# Altium footprint library PcbLib.PcbLib: 11 footprints
Each footprint in its own frame and in the unit in brackets; x right, y up, seen from the top. Pads: shape width x height; smd on the part's side, far side on the other; paste and mask are expansions set on the pad; w line width, h text height; cw(c..) or ccw(c..) is an arc to the next point about the centre after c.
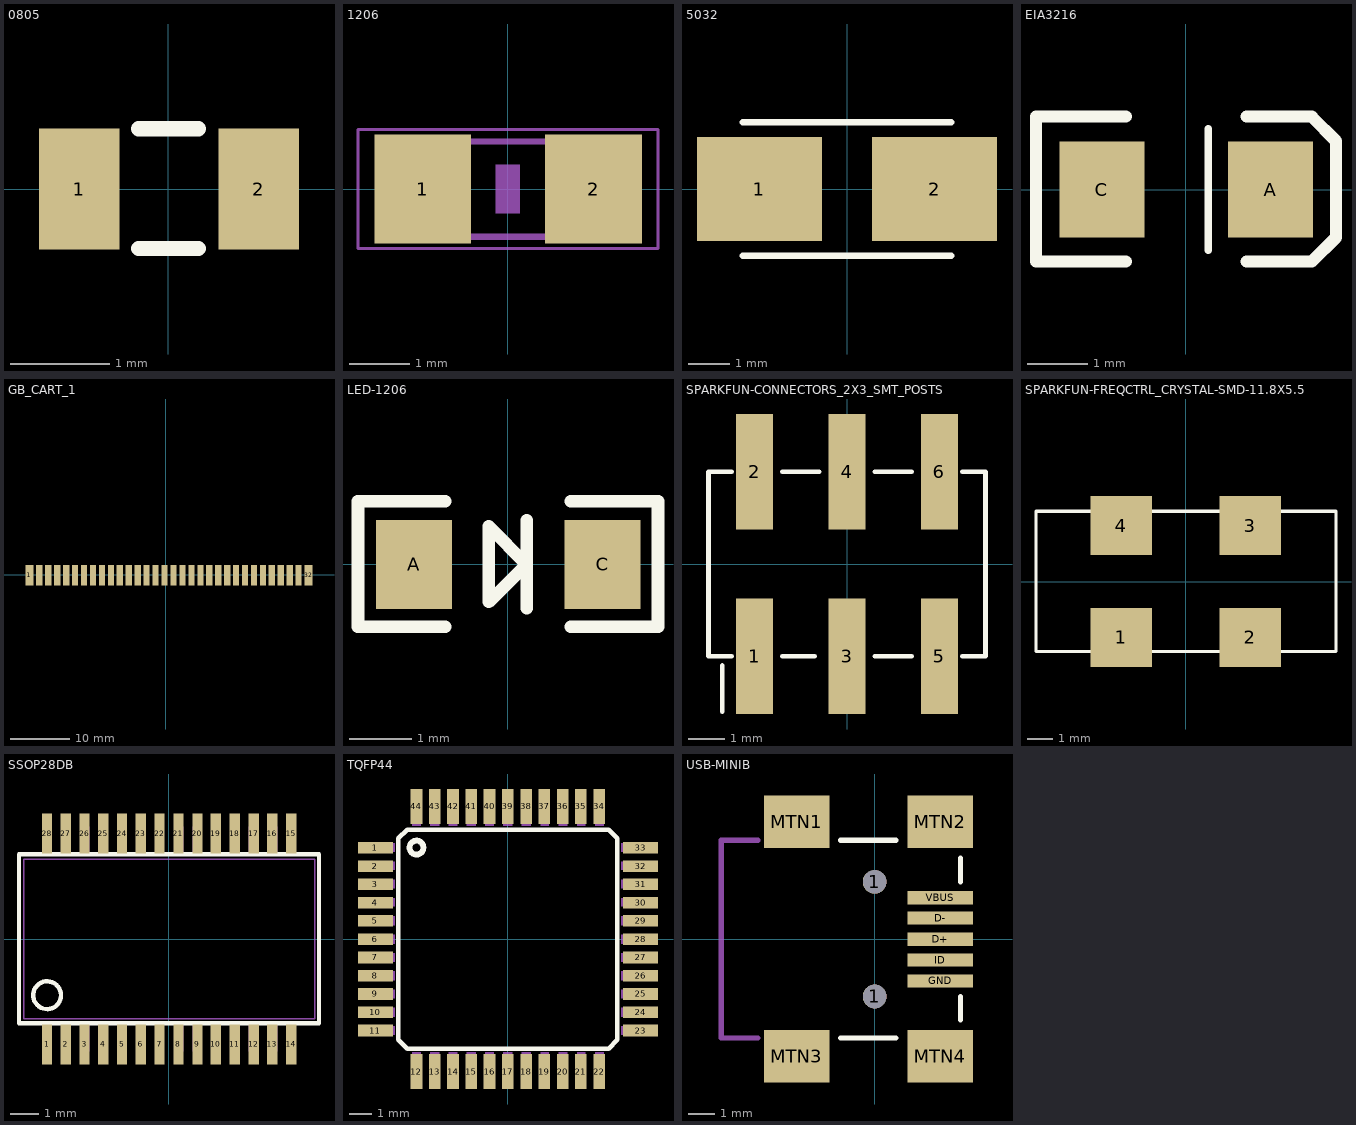
[diagram p0: the footprints below, top view; thin cyan lines are the x and y axes]

## 0805 [mil] "0805"
pads (2):
  rect 32x48 smd: 1(-35.43,0) 2(36,0)
Top Overlay:
  lines w6: -11.81,-23.62 12,-23.62 ; -11.81,24 12,24

## 1206 [mil] "1206"
pads (2):
  rect 63x71 smd: 1(-55.12,0) 2(56,0)
Top Overlay:
Mechanical 6:
  rectangle: -7.87,-15.75 8,16
Mechanical 16:
  rectangle: -67,-33.5 -37.47,34
  rectangle: 38,-33.43 67,34
  lines w4: -37.99,-30.98 38,-30.98 ; -37.99,31 38,31
Mechanical 27:
  lines w2: -97.36,-38.7 98,-38.7 98,39 -97.36,39 -97.36,-38.7

## 5032 [mm]
pads (2):
  rect 3x2.5 smd: 1(-2.1,0) 2(2.1,0)
Top Overlay:
  lines w0.152: -2.5,-1.6 2.5,-1.6 ; -2.5,1.6 2.5,1.6

## EIA3216 [mil] "EIA3216"
pads (2):
  rect 56x63 smd: A(56,0) C(-55.12,0)
Top Overlay:
  lines w5: 15,-40 15,40
  lines w8: -39.37,-47.24 -98.43,-47.24 -98.43,48 -39.37,48 ; 40,-47.24 83,-47.24 99,-31.5 99,32 83,48 40,48

## GB_CART_1 [mil] "GB_CART_1"
pads (32):
  rect 54x137 smd: 1(-901.38,-4.72) 32(943,-4.72)
  rect 41x137 smd: 2(-835.63,-4.72) 3(-776.57,-4.72) 4(-717.52,-4.72) 5(-658.46,-4.72) 6(-599.41,-4.72) 7(-540.35,-4.72) 8(-481.3,-4.72) 9(-422.24,-4.72) 10(-363.19,-4.72) 11(-304.13,-4.72) 12(-245.08,-4.72) 13(-186.02,-4.72) 14(-126.97,-4.72) 15(-67.91,-4.72) 16(-8.86,-4.72) 17(51,-4.72) 18(110,-4.72) 19(169,-4.72) 20(228,-4.72) 21(287,-4.72) 22(346,-4.72) 23(405,-4.72) 24(464,-4.72) 25(523,-4.72) 26(582,-4.72) 27(641,-4.72) 28(700,-4.72) 29(759,-4.72) 30(818,-4.72) 31(877,-4.72)
Top Overlay:

## LED-1206 [mil] "LED-1206"
pads (2):
  rect 48x56 smd: A(-59.06,0) C(60,0)
Top Overlay:
  lines w8: -39.37,-39.37 -94.49,-39.37 -94.49,40 -39.37,40 ; 12,-27.56 12,0 ; 12,28 12,0 ; 40,-39.37 95,-39.37 95,40 40,40 ; 12,0 -11.81,24 -11.81,-23.62 12,0

## SPARKFUN-CONNECTORS_2X3_SMT_POSTS [mil] "SPARKFUN-CONNECTORS_2X3_SMT_POSTS"
pads (6):
  rect 40x125 smd: 1(-100,-100) 2(-100,100) 3(0,-100) 4(0,100) 5(100,-100) 6(100,100)
Top Overlay:
  lines w5: -135,-160 -135,-110 ; -125,-100 -150,-100 -150,100 -125,100 ; -70,-100 -35,-100 ; -70,100 -30,100 ; 30,-100 70,-100 ; 30,100 70,100 ; 125,-100 150,-100 150,100 125,100

## SPARKFUN-FREQCTRL_CRYSTAL-SMD-11.8X5.5 [mil] "SPARKFUN-FREQCTRL_CRYSTAL-SMD-11.8X5.5"
pads (4):
  rect 95x91 smd: 1(-100,-86.61) 2(100,-86.61) 3(100,87) 4(-100,87)
Top Overlay:
  lines w5: -232.28,-108.27 233,-108.27 233,109 -232.28,109 -232.28,-108.27

## SSOP28DB [mil] "SSOP28DB"
pads (28):
  rect 14x55 smd: 1(-166.34,-143.94) 2(-140.75,-143.94) 3(-115.16,-143.94) 4(-89.57,-143.94) 5(-63.98,-143.94) 6(-38.39,-143.94) 7(-12.8,-143.94) 8(13,-143.94) 9(39,-143.94) 10(64,-143.94) 11(90,-143.94) 12(116,-143.94) 13(141,-143.94) 14(167,-143.94) 15(167,144) 16(141,144) 17(116,144) 18(90,144) 19(64,144) 20(39,144) 21(13,144) 22(-12.8,144) 23(-38.39,144) 24(-63.98,144) 25(-89.57,144) 26(-115.16,144) 27(-140.75,144) 28(-166.34,144)
Top Overlay:
  circle w6: c-166.34,-76.77 r19
  lines w6: -204.72,-115.16 -204.72,116 205,116 205,-115.16 -204.72,-115.16
Mechanical 4:
  lines w2: -198.35,-108.78 -198.35,109 199,109 199,-108.78 -198.35,-108.78
Mechanical 16:
  rectangle: 160,-153.56 173,-116.77
  rectangle: 135,-153.56 148,-116.77
  rectangle: 109,-153.56 122,-116.77
  rectangle: 84,-153.56 96,-116.77
  rectangle: 58,-153.56 71,-116.77
  rectangle: 32,-153.56 45,-116.77
  rectangle: 7,-153.56 20,-116.77
  rectangle: -19.19,-153.54 -6.4,-116.76
  rectangle: -44.78,-153.54 -31.99,-116.76
  rectangle: -70.37,-153.54 -57.58,-116.76
  rectangle: -95.96,-153.54 -83.17,-116.76
  rectangle: 160,117 173,154
  rectangle: 135,117 148,154
  rectangle: 109,117 122,154
  rectangle: 84,117 96,154
  rectangle: 58,117 71,154
  rectangle: 32,117 45,154
  rectangle: 7,117 20,154
  rectangle: -19.19,117 -6.4,154
  rectangle: -44.78,117 -31.99,154
  rectangle: -70.37,117 -57.58,154
  rectangle: -95.96,117 -83.17,154
  rectangle: -121.56,117 -108.76,154
  rectangle: -147.15,117 -134.35,154
  rectangle: -121.56,-153.54 -108.76,-116.76
  rectangle: -147.15,-153.54 -134.35,-116.76
  rectangle: -172.74,-153.54 -159.94,-116.76
  rectangle: -172.74,117 -159.94,154

## TQFP44 [mil] "TQFP44"
pads (44):
  rect 60x20 smd: 1(-228.35,158) 2(-228.35,126) 3(-228.35,95) 4(-228.35,63) 5(-228.35,32) 6(-228.35,0) 7(-228.35,-31.5) 8(-228.35,-62.99) 9(-228.35,-94.49) 10(-228.35,-125.98) 11(-228.35,-157.48) 23(229,-157.48) 24(229,-125.98) 25(229,-94.49) 26(229,-62.99) 27(229,-31.5) 28(229,0) 29(229,32) 30(229,63) 31(229,95) 32(229,126) 33(229,158)
  rect 20x60 smd: 12(-157.48,-228.35) 13(-125.98,-228.35) 14(-94.49,-228.35) 15(-62.99,-228.35) 16(-31.5,-228.35) 17(0,-228.35) 18(32,-228.35) 19(63,-228.35) 20(95,-228.35) 21(126,-228.35) 22(158,-228.35) 34(158,229) 35(126,229) 36(95,229) 37(63,229) 38(32,229) 39(0,229) 40(-31.5,229) 41(-62.99,229) 42(-94.49,229) 43(-125.98,229) 44(-157.48,229)
Top Overlay:
  circle w10: c-157.48,158 r12
  lines w8: -188.98,-173.23 -188.98,174 -173.23,189 174,189 189,174 189,-173.23 174,-188.98 -173.23,-188.98 -188.98,-173.23
Mechanical 16:
  rectangle: -165.33,195 -149.59,241
  rectangle: -133.86,195 -118.11,241
  rectangle: -102.36,195 -86.61,241
  rectangle: -70.87,195 -55.12,241
  rectangle: -39.37,195 -23.62,241
  rectangle: -7.87,195 8,241
  rectangle: 24,195 40,241
  rectangle: 56,195 71,241
  rectangle: 87,195 103,241
  rectangle: 119,195 134,241
  rectangle: 150,195 166,241
  rectangle: 195,150 241,166
  rectangle: 195,119 241,134
  rectangle: 195,87 241,103
  rectangle: 195,56 241,71
  rectangle: 195,24 241,40
  rectangle: 195,-7.87 241,8
  rectangle: 195,-39.37 241,-23.62
  rectangle: 195,-70.87 241,-55.12
  rectangle: 195,-102.36 241,-86.61
  rectangle: 195,-133.86 241,-118.11
  rectangle: 195.02,-165.35 241.02,-149.61
  rectangle: 150,-240.16 166,-194.88
  rectangle: 119,-240.16 134,-194.88
  rectangle: 87,-240.16 103,-194.88
  rectangle: 56,-240.16 71,-194.88
  rectangle: 24,-240.16 40,-194.88
  rectangle: -7.87,-240.16 8,-194.88
  rectangle: -39.37,-240.16 -23.62,-194.88
  rectangle: -70.87,-240.16 -55.12,-194.88
  rectangle: -102.36,-240.16 -86.61,-194.88
  rectangle: -133.86,-240.16 -118.11,-194.88
  rectangle: -165.35,-240.16 -149.61,-194.88
  rectangle: -240.16,-165.35 -194.88,-149.61
  rectangle: -240.16,-133.86 -194.88,-118.11
  rectangle: -240.16,-102.36 -194.88,-86.61
  rectangle: -240.16,-70.87 -194.88,-55.12
  rectangle: -240.16,-39.37 -194.88,-23.62
  rectangle: -240.16,-7.87 -194.88,8
  rectangle: -240.16,24 -194.88,40
  rectangle: -240.16,56 -194.88,71
  rectangle: -240.16,87 -194.88,103
  rectangle: -240.16,119 -194.88,134
  rectangle: -240.16,150 -194.88,166

## USB-MINIB [mil] "USB-MINIB"
pads (11):
  round 36 hole 36: 1(0,-86.61) 1(0,87)
  rect 99x20 smd: D+(99,0) D-(99,32) GND(99,-62.99) ID(99,-31.5) VBUS(99,63)
  rect 99x79 smd: MTN1(-118.11,178) MTN2(99,178) MTN3(-118.11,-177.17) MTN4(99,-177.17)
Top Overlay:
  lines w8: -51.18,-149.61 32,-149.61 ; -51.18,150 32,150 ; 130,-122.05 130,-86.61 ; 130,87 130,123
Mechanical 16:
  lines w8: -177.17,-149.61 -232.28,-149.61 -232.28,150 -177.17,150